# Altium schematic symbol library Transistors P-MOSFET.SchLib: 4 symbols
Pins are listed as number, name and electrical type; pins without a type are passive.

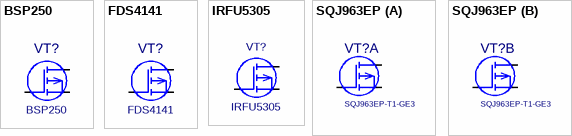
[diagram p0: symbols BSP250 to SQJ963EP]

## BSP250
designator VT?
Value: *
footprint SOT-223 PWR
pins: 1, 2, 3

## FDS4141
designator VT?
Value: *
footprint SO-8 FET
pins: 1, 2, 3

## IRFU5305
designator VT?
NPN General Purpose Amplifier; OriginalName: 2N4124; ComponentField6: Published 8-Jun-2000, Modified 11-July-2000: SIM Model Added.; Value: *
simulation model 2N4124
footprint D-PAK (TO-252)
pins: 1 G, 2 S, 3 D

## SQJ963EP
designator VT?, comment SQJ963EP-T1-GE3
footprint PowerPAK SO-8L Dual
part A pins: 1, 2, 6
part B pins: 3, 4, 5